# Altium footprint library STM32F103RB(RC)T6mini核心板--整体封装库.PcbLib: 1 footprints
Each footprint in its own frame and in the unit in brackets; x right, y up, seen from the top. Pads: shape width x height; smd on the part's side, far side on the other; paste and mask are expansions set on the pad; w line width, h text height; cw(c..) or ccw(c..) is an arc to the next point about the centre after c.
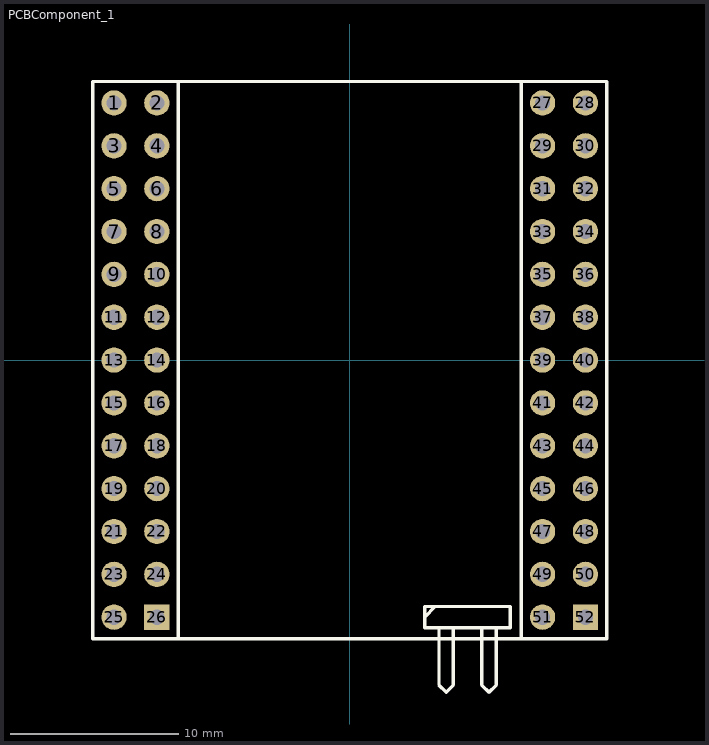
[diagram p0: the footprint, top view; thin cyan lines are the x and y axes]

## PCBComponent_1 [mm]
pads (52):
  round 1.5 hole 0.9: 1(-13.97,15.24) 2(-11.43,15.24) 3(-13.97,12.7) 4(-11.43,12.7) 5(-13.97,10.16) 6(-11.43,10.16) 7(-13.97,7.62) 8(-11.43,7.62) 9(-13.97,5.08) 10(-11.43,5.08) 11(-13.97,2.54) 12(-11.43,2.54) 13(-13.97,0) 14(-11.43,0) 15(-13.97,-2.54) 16(-11.43,-2.54) 17(-13.97,-5.08) 18(-11.43,-5.08) 19(-13.97,-7.62) 20(-11.43,-7.62) 21(-13.97,-10.16) 22(-11.43,-10.16) 23(-13.97,-12.7) 24(-11.43,-12.7) 25(-13.97,-15.24) 27(11.43,15.24) 28(13.97,15.24) 29(11.43,12.7) 30(13.97,12.7) 31(11.43,10.16) 32(13.97,10.16) 33(11.43,7.62) 34(13.97,7.62) 35(11.43,5.08) 36(13.97,5.08) 37(11.43,2.54) 38(13.97,2.54) 39(11.43,0) 40(13.97,0) 41(11.43,-2.54) 42(13.97,-2.54) 43(11.43,-5.08) 44(13.97,-5.08) 45(11.43,-7.62) 46(13.97,-7.62) 47(11.43,-10.16) 48(13.97,-10.16) 49(11.43,-12.7) 50(13.97,-12.7) 51(11.43,-15.24)
  rect 1.5x1.5 hole 0.9: 26(-11.43,-15.24) 52(13.97,-15.24)
Top Overlay:
  lines w0.152: -15.24,-16.51 -15.24,16.51 15.24,16.51 15.24,-16.51
  lines w0.2: 4.445,-15.24 5.08,-14.605 ; 5.292,-15.875 5.292,-19.262 5.715,-19.685 6.138,-19.262 6.138,-15.875 ; 7.832,-15.875 7.832,-19.262 8.255,-19.685 8.678,-19.262 8.678,-15.875 ; -15.24,-16.51 -15.24,16.51 -10.16,16.51 -10.16,-16.51 -15.24,-16.51 ; 4.445,-15.875 9.525,-15.875 9.525,-14.605 4.445,-14.605 4.445,-15.875 ; 10.16,-16.51 10.16,16.51 15.24,16.51 15.24,-16.51 10.16,-16.51
  lines w0.203: -15.24,-16.51 15.24,-16.51
3D body: height 15, standoff 0, extent 10.287,-16.51 15.113,16.256
3D body: height 15, standoff 0, extent -15.113,-16.383 -10.287,16.383